# Altium footprint library AXK500137YG.PcbLib: 1 footprints
Each footprint in its own frame and in the unit in brackets; x right, y up, seen from the top. Pads: shape width x height; smd on the part's side, far side on the other; paste and mask are expansions set on the pad; w line width, h text height; cw(c..) or ccw(c..) is an arc to the next point about the centre after c.
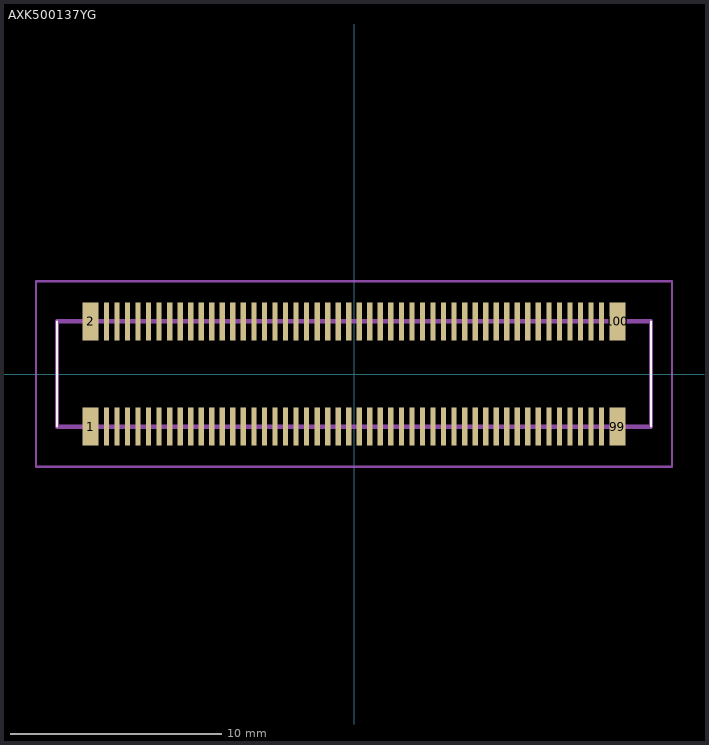
[diagram p0: the footprint, top view; thin cyan lines are the x and y axes]

## AXK500137YG [mm]
pads (100):
  rect 0.75x1.8 smd: 1(-12.5,-2.5) 2(-12.5,2.5) 99(12.5,-2.5) 100(12.5,2.5)
  rect 0.25x1.8 smd: 3(-11.75,-2.5) 4(-11.75,2.5) 5(-11.25,-2.5) 6(-11.25,2.5) 7(-10.75,-2.5) 8(-10.75,2.5) 9(-10.25,-2.5) 10(-10.25,2.5) 11(-9.75,-2.5) 12(-9.75,2.5) 13(-9.25,-2.5) 14(-9.25,2.5) 15(-8.75,-2.5) 16(-8.75,2.5) 17(-8.25,-2.5) 18(-8.25,2.5) 19(-7.75,-2.5) 20(-7.75,2.5) 21(-7.25,-2.5) 22(-7.25,2.5) 23(-6.75,-2.5) 24(-6.75,2.5) 25(-6.25,-2.5) 26(-6.25,2.5) 27(-5.75,-2.5) 28(-5.75,2.5) 29(-5.25,-2.5) 30(-5.25,2.5) 31(-4.75,-2.5) 32(-4.75,2.5) 33(-4.25,-2.5) 34(-4.25,2.5) 35(-3.75,-2.5) 36(-3.75,2.5) 37(-3.25,-2.5) 38(-3.25,2.5) 39(-2.75,-2.5) 40(-2.75,2.5) 41(-2.25,-2.5) 42(-2.25,2.5) 43(-1.75,-2.5) 44(-1.75,2.5) 45(-1.25,-2.5) 46(-1.25,2.5) 47(-0.75,-2.5) 48(-0.75,2.5) 49(-0.25,-2.5) 50(-0.25,2.5) 51(0.25,-2.5) 52(0.25,2.5) 53(0.75,-2.5) 54(0.75,2.5) 55(1.25,-2.5) 56(1.25,2.5) 57(1.75,-2.5) 58(1.75,2.5) 59(2.25,-2.5) 60(2.25,2.5) 61(2.75,-2.5) 62(2.75,2.5) 63(3.25,-2.5) 64(3.25,2.5) 65(3.75,-2.5) 66(3.75,2.5) 67(4.25,-2.5) 68(4.25,2.5) 69(4.75,-2.5) 70(4.75,2.5) 71(5.25,-2.5) 72(5.25,2.5) 73(5.75,-2.5) 74(5.75,2.5) 75(6.25,-2.5) 76(6.25,2.5) 77(6.75,-2.5) 78(6.75,2.5) 79(7.25,-2.5) 80(7.25,2.5) 81(7.75,-2.5) 82(7.75,2.5) 83(8.25,-2.5) 84(8.25,2.5) 85(8.75,-2.5) 86(8.75,2.5) 87(9.25,-2.5) 88(9.25,2.5) 89(9.75,-2.5) 90(9.75,2.5) 91(10.25,-2.5) 92(10.25,2.5) 93(10.75,-2.5) 94(10.75,2.5) 95(11.25,-2.5) 96(11.25,2.5) 97(11.75,-2.5) 98(11.75,2.5)
Top Overlay:
  lines w0.1: -14.1,-2.5 -14.1,2.5 ; 14.1,-2.5 14.1,2.5
Mechanical 15:
  lines w0.2: -14.1,-2.5 14.1,-2.5 14.1,2.5 -14.1,2.5 -14.1,-2.5
Mechanical 20:
  lines w0.1: -15.1,-4.4 15.1,-4.4 15.1,4.4 -15.1,4.4 -15.1,-4.4